# EAGLE library part MLE-105-01-G-DV (library SamacSys_Parts)
10 Position, 1.00 mm Tiger Beam™ Cost-Effective Single Beam Socket Strip Source: Datasheet <http://suddendocs.samtec.com/prints/mle-1xx-xx-x-dv-x-mkt1.pdf>
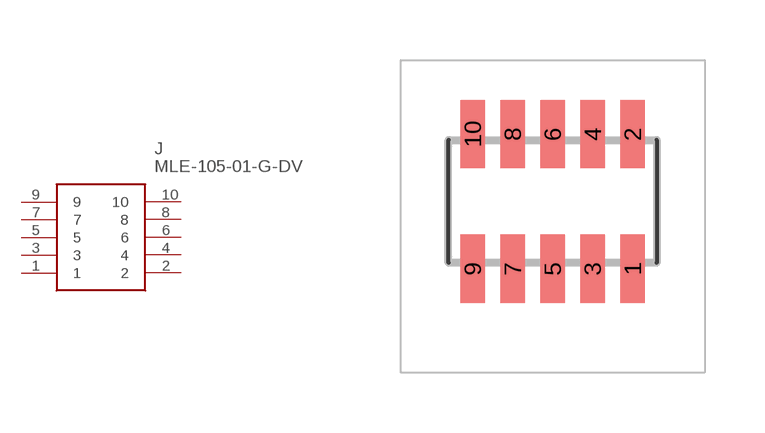
[diagram p0: symbol with the pads of MLE-105-01-G-DV; footprint MLE-105-01-G-DV]

Designator prefix J

## MLE-105-01-G-DV (Description: 10 Position, 1.00 mm Tiger Beam&trade; Cost-Effective Single Beam Socket Strip; Height: mm; Manufacturer_Name: SAMTEC; Manufacturer_Part_Number: MLE-105-01-G-DV; Mouser_Part_Number: 200-MLE10501GDV; Mouser_Price-Stock: https://www.mouser.co.uk/ProductDetail/Samtec/MLE-105-01-G-DV?qs=rU5fayqh%252BE2dXiDvl4XeQQ%3D%3D)  [MLE-105-01-G-DV]
1  1
2  2
3  3
4  4
5  5
6  6
7  7
8  8
9  9
10  10

## Footprint MLE-105-01-G-DV (pad centres in mm)
MLE-105-01-G-DV
smd 0.61 x 1.709: 1 2,-1.685; 2 2,1.685; 3 1,-1.685; 4 1,1.685; 5 0,-1.685; 6 0,1.685; 7 -1,-1.685; 8 -1,1.685; 9 -2,-1.685; 10 -2,1.685